# Altium schematic symbol library battery.SchLib: 4 symbols
Pins are listed as number, name and electrical type; pins without a type are passive.

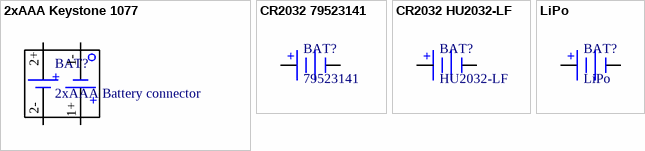
[diagram p0: symbols 2xAAA Keystone 1077 to LiPo]

## 2xAAA Keystone 1077
designator BAT?, comment 2xAAA Battery connector
Manufacturer: Keystone; Manufacturer Part Number: 1077; Created by: Nils Minor
footprint 1077
pins: 1+, 1-, 2+, 2- -
text: +

## CR2032 79523141
designator BAT?, comment 79523141
CR2032 SMD Batterie Halterung; Manufacturer: Würth Elektronik; Created by: Nils Minor; Manufacturer Part Number: 79523141; Value: CR2032
footprint 79523141
pins: 1 +, 2 -

## CR2032 HU2032-LF
designator BAT?, comment HU2032-LF
Batteriehalterung THT; Manufacturer: Renata; Value: CR2032; Created by: Nils Minor; Manufacturer Part Number: HU2032-LF
footprint HU2032-LF
pins: 1 +, 2 +, 5 -

## LiPo
designator BAT?
3.7V 1500mAh LiPo (Bomedus); Manufacturer: Quick Energy; Manufacturer Part Number: 604050P; Created by: Nils Minor; Value: LiPo
footprint LiPo (604050P 3,7 V; 1500 mAH)
pins: 1 +, 2 -